# Altium schematic symbol library Nokia1616_Display.SchLib: 1 symbol
Pins are listed as number, name and electrical type; pins without a type are passive.

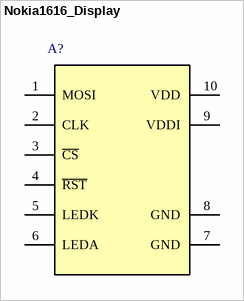
[diagram p0: symbol Nokia1616_Display]

## Nokia1616_Display
designator A?  (value not drawn)
pins: 1 MOSI, 2 CLK, 3 ~{CS}, 4 ~{RST}, 5 LEDK, 6 LEDA, 7  GND, 8 GND, 9 VDDI, 10 VDD